# EAGLE library part SDCARD (library microbuilder)
SD Card Reader 06132 = Inexpensive SMT 19646 = Push/Pull SMT
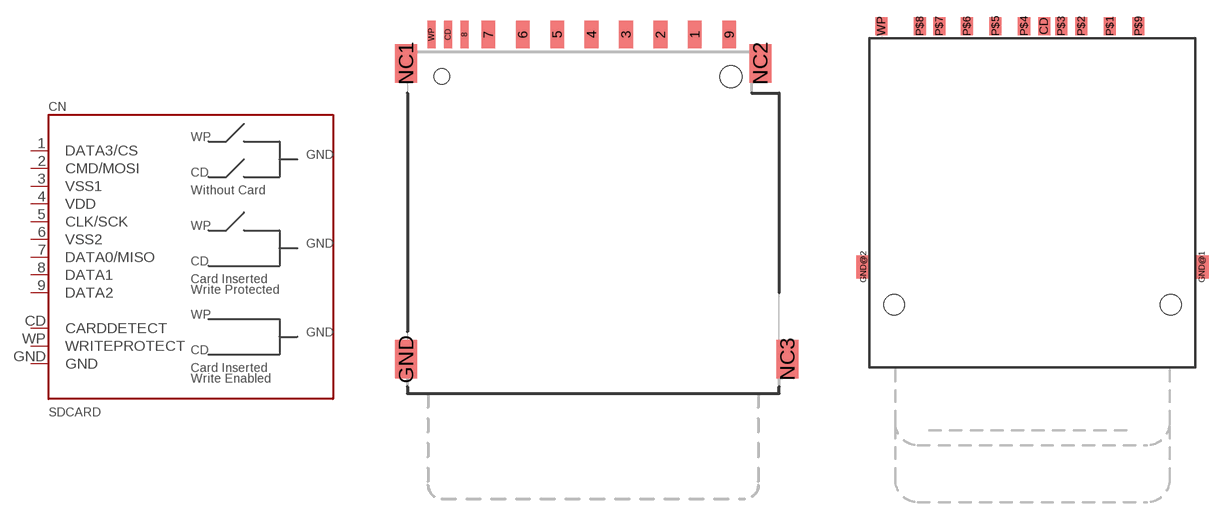
[diagram p35: symbol with the pads of SDCARD_SMT_4U06132; footprints SDCARD_SMT_4U06132, SDCARD_SMT_4U19646]

Designator prefix CN

## SDCARD  [SDCARD_SMT_4U06132]
1  DATA3/CS
2  CMD/MOSI
3  VSS1
4  VDD
5  CLK/SCK
6  VSS2
7  DATA0/MISO
8  DATA1
9  DATA2
CD  CARDDETECT
GND  GND
WP  WRITEPROTECT

## SDCARD19646  [SDCARD_SMT_4U19646]
CD  CARDDETECT
GND@2  GND
P$1  DATA3/CS
P$2  CMD/MOSI
P$3  VSS1
P$4  VDD
P$5  CLK/SCK
P$6  VSS2
P$7  DATA0/MISO
P$8  DATA1
P$9  DATA2
WP  WRITEPROTECT

## Footprint SDCARD_SMT_4U06132 (pad centres in mm)
SD Card Holder - 90° SMT 4UConnector: 06132
smd 1 x 2.008: 1 6.88,11.254; 2 4.38,11.254; 3 1.88,11.254; 4 -0.62,11.254; 5 -3.12,11.254; 6 -5.62,11.254; 7 -8.12,11.254; 9 9.38,11.254
smd 0.6 x 2.008: 8 -9.845,11.254; CD -11.045,11.254; WP -12.245,11.254
smd 1.6 x 2.8: GND -14.1,-12.35; NC1 -14.1,9.15; NC2 11.631,9.15; NC3 13.6,-12.35
hole 1.6 at 9.5,8.2
hole 1.1 at -11.5,8.2

## Footprint SDCARD_SMT_4U19646 (pad centres in mm)
Push/Pull SD Connector - 4U 19646
smd 1.05 x 1.56: CD 1.02,15.47; P$1 6.77,15.47; P$2 4.27,15.47; P$3 2.52,15.47; P$4 -0.73,15.47; P$5 -3.23,15.47; P$6 -5.73,15.47; P$7 -8.15,15.47; P$8 -9.85,15.47; P$9 9.27,15.47; WP -13.2,15.47
smd 1.2 x 2: GND@1 14.8,-5.6; GND@2 -14.8,-5.6
hole 1.8 at -12.1,-8.9
hole 1.8 at 12.1,-8.9